# EAGLE library part TPS61291DVRT (library Oles komponentbibliotek)
Low Iq Boost Converter with 15nA Bypass Operation in 2x2mm package
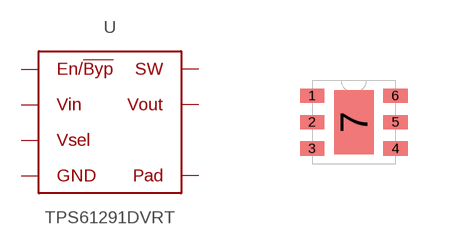
[diagram p66: symbol with the pads of SON-6; footprint SON-6]

Designator prefix U

## TPS61291DVRT  [SON-6]
1  SW  in
2  VOUT  pwr
3  VIN  pwr
4  EN/!BYP  in
5  VSEL  in
6  GND  pwr
7  PAD  nc

## Footprint SON-6 (pad centres in mm)
smd 0.61 x 0.356: 1 -1.041,0.66; 2 -1.041,0; 3 -1.041,-0.66; 4 1.041,-0.66; 5 1.041,0; 6 1.041,0.66
smd 0.991 x 1.6: 7 0,0